# EAGLE library part MOMENTARY-SWITCH-TS5-LED (library 00_marph-Honyone)
Momentary Switch (Pushbutton) - SPST - w/ LED Normally-open (NO) SPST momentary switches (buttons, pushbuttons), with a built-in LED. Variants PTH-CHERRY - Cherry MX Switch Cherry MX Keyswitches are top-of-the-line mechanical keyboard switches. They’re satisfyingly “clicky”, reliable up to tens-of-millions of key presses, and a standard in gaming and programming keyboards across the globe. This ‘blue’ version Cherry MX Switch is favored by most due to its secondary internal actuator making it less likely to “double-tap.” If you are looking for a noticeably audible and high-quality key switch, this is the perfect option for you! Cherry MX Switch <https://www.sparkfun.com/products/13834> (COM-13834) Cherry MX Switch Breakout <https://www.sparkfun.com/products/13773> (BOB-13773) PTH-12MM and PTH-12MM-KIT - 12mm Illuminated LED KIT variant is for soldering kits. There is no tStop (covering up the top side of the pads with mask). This helps the beginner see which side they should be soldering too. LED Tactile Button Breakout <https://www.sparkfun.com/products/10467> (BOB-10467) LED Tactile Button - Red <https://www.sparkfun.com/products/10442> (COM-10442) LED Tactile Button - Blue <https://www.sparkfun.com/products/10443> (COM-10443) LED Tactile Button - Green <https://www.sparkfun.com/products/10440> (COM-10440) LED Tactile Button - Orange <https://www.sparkfun.com/products/10441> (COM-10441) LED Tactile Button - White <https://www.sparkfun.com/products/10439> (COM-10439)
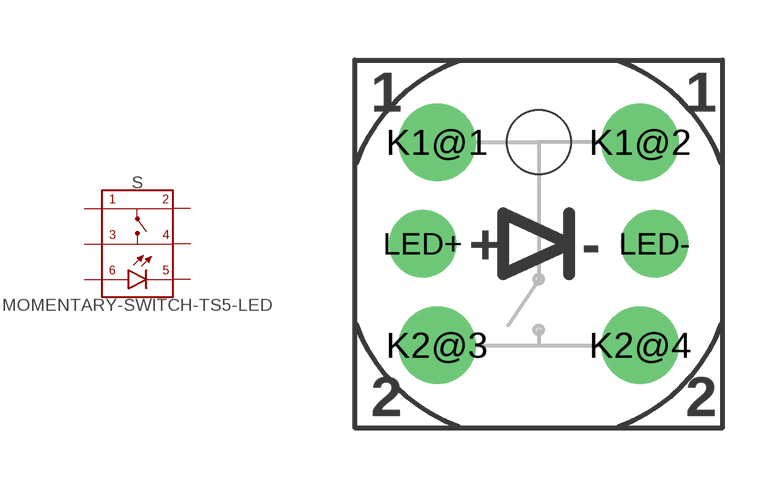
[diagram p0: symbol with the pads of TACTILE_SWITCH_LED_TS5_9.2MM; footprint TACTILE_SWITCH_LED_TS5_9.2MM]

Designator prefix S

## MOMENTARY-SWITCH-TS5-LED  [TACTILE_SWITCH_LED_TS5_9.2MM]
K1@1  SW
K1@2  SW
K2@3  NO
K2@4  NO
LED+  A_LED+  pas
LED-  C_LED-  pas

## Footprint TACTILE_SWITCH_LED_TS5_9.2MM (pad centres in mm)
Momentary Switch (Pushbutton) - SPST - w/ LED - PTH Normally-open (NO) SPST momentary switches (buttons, pushbuttons), with a built-in LED. Dimensional Drawing <https://www.sparkfun.com/datasheets/Components/General/TSD1265.png>
drill 1.2 pad 1.93: K1@1 -2.54,2.54; K1@2 2.54,2.54; K2@3 -2.54,-2.54; K2@4 2.54,-2.54
drill 1 pad 1.676: LED+ -2.9,0; LED- 2.9,0
hole 1.6 at 0,2.54